# EAGLE library part 6118 (library Ketturi electronics)
VACUUM FLUORESCENT DISPLAY DRIVER Consisting of eight npn Darlington output stages and the associated common-emitter input stages, these drivers are designed to interface between low-level digital logic and vacuum fluorescent displays. Both devices are capable of driving the digits and/or segments of these displays and are designed to permit all outputs to be activated simultaneously. Pull-down resistors are incorporated into each output and no external components are required for most fluorescent display applications.
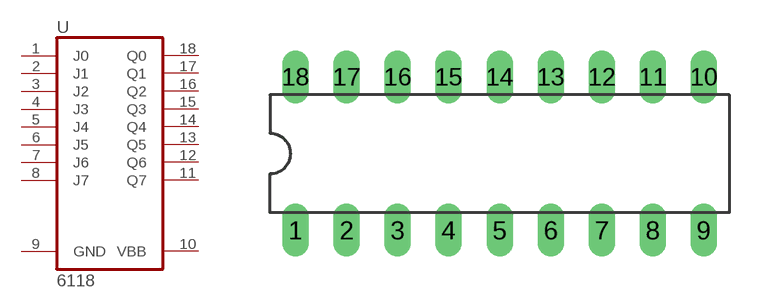
[diagram p2: symbol with the pads of DIL18; footprint DIL18]

Designator prefix -

## 6118  [DIL18]
1  J0  in
2  J1  in
3  J2  in
4  J3  in
5  J4  in
6  J5  in
7  J6  in
8  J7  in
9  GND  pwr
10  VBB  pwr
11  Q7  out
12  Q6  out
13  Q5  out
14  Q4  out
15  Q3  out
16  Q2  out
17  Q1  out
18  Q0  out

## Footprint DIL18 (pad centres in mm)
Dual In Line Package
drill 0.813 long: 1 -10.16,-3.81; 2 -7.62,-3.81; 3 -5.08,-3.81; 4 -2.54,-3.81; 5 0,-3.81; 6 2.54,-3.81; 7 5.08,-3.81; 8 7.62,-3.81; 9 10.16,-3.81; 10 10.16,3.81; 11 7.62,3.81; 12 5.08,3.81; 13 2.54,3.81; 14 0,3.81; 15 -2.54,3.81; 16 -5.08,3.81; 17 -7.62,3.81; 18 -10.16,3.81